# EAGLE library part PA6H (library MyLib)
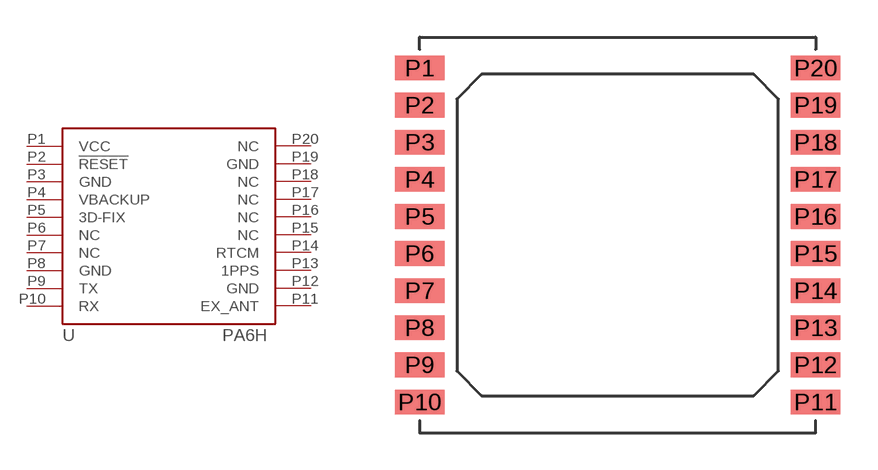
[diagram p1: symbol with the pads of DFN20; footprint DFN20]

Designator prefix -

## PA6H  [DFN20]
P1  VCC  pwr
P2  !RESET
P3  GND  pwr
P4  VBACKUP  pwr
P5  3D-FIX
P6  NC  nc
P7  NC  nc
P8  GND  pwr
P9  TX
P10  RX
P11  EX_ANT  pas
P12  GND  pwr
P13  1PPS
P14  RTCM
P15  NC  nc
P16  NC  nc
P17  NC  nc
P18  NC  nc
P19  GND  pwr
P20  NC  nc

## Footprint DFN20 (pad centres in mm)
20-pin dual flat no-lead package with patch antenna
smd 2 x 1: P1 -8,6.75; P2 -8,5.25; P3 -8,3.75; P4 -8,2.25; P5 -8,0.75; P6 -8,-0.75; P7 -8,-2.25; P8 -8,-3.75; P9 -8,-5.25; P10 -8,-6.75; P11 8,-6.75; P12 8,-5.25; P13 8,-3.75; P14 8,-2.25; P15 8,-0.75; P16 8,0.75; P17 8,2.25; P18 8,3.75; P19 8,5.25; P20 8,6.75